# Altium schematic symbol library Semiconductor.SchLib: 13 symbols
Pins are listed as number, name and electrical type; pins without a type are passive.

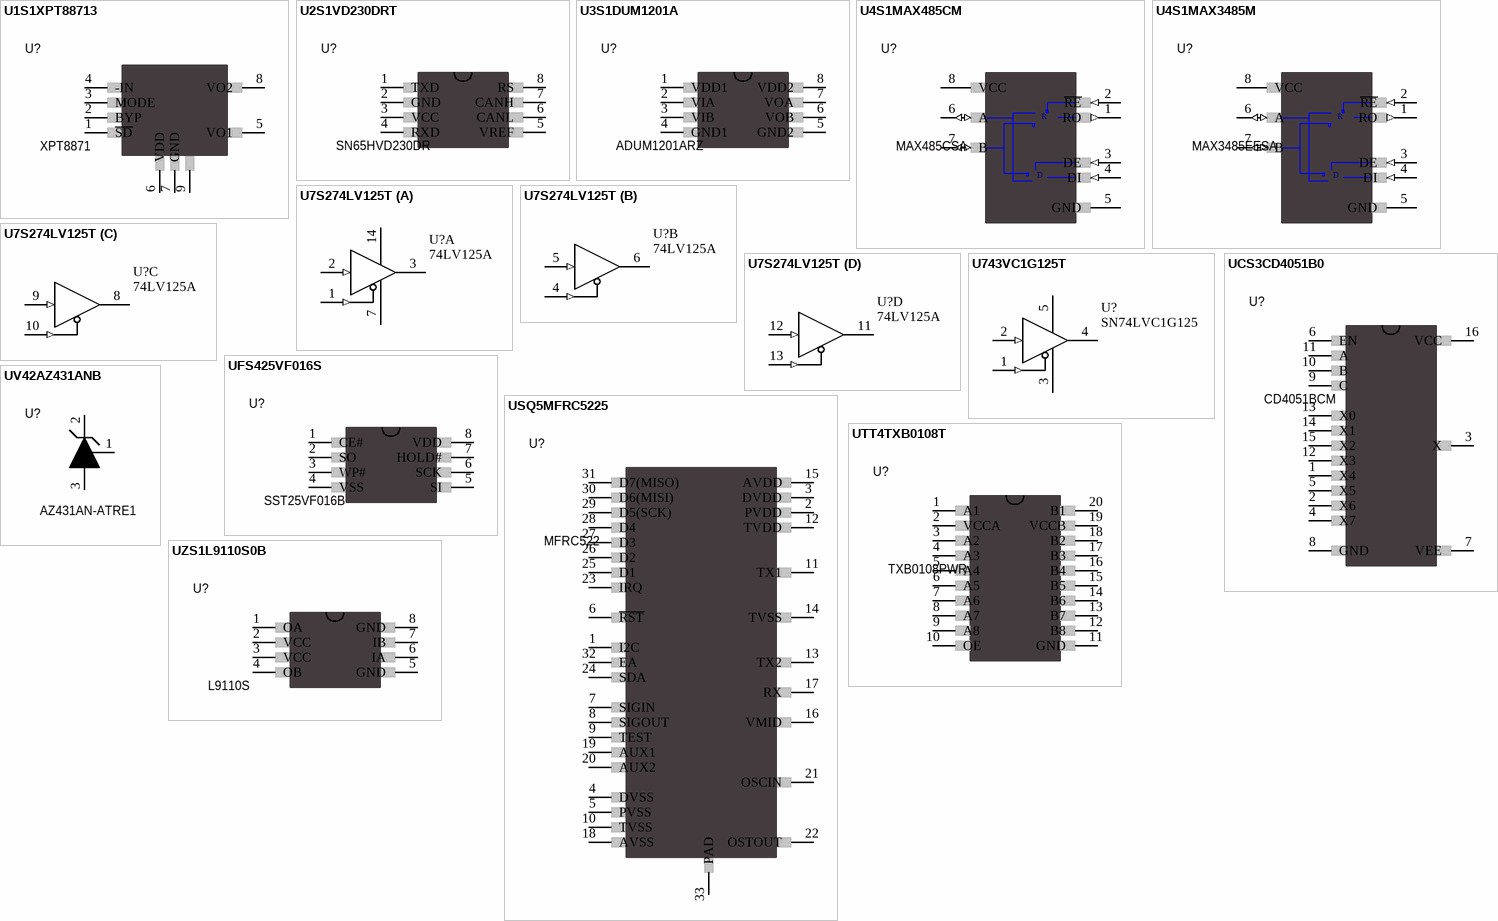
[diagram p0: symbols U1S1XPT88713 to UZS1L9110S0B]

## U1S1XPT88713
designator U?, comment XPT8871
1 channel audio amplifier XPT8871 5W; Manufacturer: XPTEK; TemperatureRange: -40 to 85°C; MountType: SMT; PackageReference: SOIC-8; Published: 1-Jun-2017; Publisher: GreenBox; VenderID: XPT8871
footprint SO-8_POWERPAD (8-Pin Small Outline Integrated Circuit 1.27 mm Pitch)
pins: 1 ~{SD}, 2 BYP, 3 MODE, 4 -IN, 5 VO1, 6 VDD, 7 GND, 8 VO2, 9
2 alternate drawings of the same symbol

## U2S1VD230DRT
designator U?, comment SN65HVD230DR
CAN Bus Transceivers SN65HVD230DR Vcc 3.3V; Manufacturer: TEXAS INSTRUMENTS; TemperatureRange: -40 to 85°C; MountType: SMT; PackageReference: SOIC-8; Published: 1-Jun-2017; Publisher: GreenBox; VenderID: SN65HVD230DR
footprint SO-8_N (8-Pin Small Outline Integrated Circuit 1.27 mm Pitch, IPC Medium Density)
footprint SO-8_L (8-Pin Small Outline Integrated Circuit 1.27 mm Pitch, IPC High Density)
footprint SO-8_M (8-Pin Small Outline Integrated Circuit 1.27 mm Pitch, IPC Low Density)
pins: 1 TXD, 2 GND, 3 VCC, 4 RXD, 5 VREF, 6 CANL, 7 CANH, 8 RS
2 alternate drawings of the same symbol

## U3S1DUM1201A
designator U?, comment ADUM1201ARZ
Digital Isolators ADUM1201ARZ; Manufacturer: ANALOG DEVICES; TemperatureRange: -40 to 105°C; MountType: SMT; PackageReference: SOIC-8; Published: 1-Jun-2017; Publisher: GreenBox; VenderID: ADUM1201ARZ
footprint SO-8_N (8-Pin Small Outline Integrated Circuit 1.27 mm Pitch, IPC Medium Density)
footprint SO-8_L (8-Pin Small Outline Integrated Circuit 1.27 mm Pitch, IPC High Density)
footprint SO-8_M (8-Pin Small Outline Integrated Circuit 1.27 mm Pitch, IPC Low Density)
pins: 1 VDD1, 2 VIA, 3 VIB, 4 GND1, 5 GND2, 6 VOB, 7 VOA, 8 VDD2
2 alternate drawings of the same symbol

## U4S1MAX485CM
designator U?, comment MAX485CSA
RS-485/RS-422 Transceivers MAX485CSA 5V; Manufacturer: MAXIM; TemperatureRange: -40 to 85°C; MountType: SMT; PackageReference: SOIC-8; Published: 1-Jun-2017; Publisher: GreenBox; VenderID: MAX485CSA
footprint SO-8_N (8-Pin Small Outline Integrated Circuit 1.27 mm Pitch, IPC Medium Density)
footprint SO-8_L (8-Pin Small Outline Integrated Circuit 1.27 mm Pitch, IPC High Density)
footprint SO-8_M (8-Pin Small Outline Integrated Circuit 1.27 mm Pitch, IPC Low Density)
pins: 1 RO (out), 2 ~{RE} (in), 3 DE (in), 4 DI (in), 5 GND, 6 A (io), 7 B (io), 8 VCC
2 alternate drawings of the same symbol
text: R; D

## U4S1MAX3485M
designator U?, comment MAX3485EESA
RS-485/RS-422 Transceivers MAX3485EESA 3.3V; Manufacturer: MAXIM; TemperatureRange: -40 to 85°C; MountType: SMT; PackageReference: SOIC-8; Published: 1-Jun-2017; Publisher: GreenBox; VenderID: MAX3485EESA
footprint SO-8_N (8-Pin Small Outline Integrated Circuit 1.27 mm Pitch, IPC Medium Density)
footprint SO-8_L (8-Pin Small Outline Integrated Circuit 1.27 mm Pitch, IPC High Density)
footprint SO-8_M (8-Pin Small Outline Integrated Circuit 1.27 mm Pitch, IPC Low Density)
pins: 1 RO (out), 2 ~{RE} (in), 3 DE (in), 4 DI (in), 5 GND, 6 A (io), 7 B (io), 8 VCC
2 alternate drawings of the same symbol
text: R; D

## U7S274LV125T
designator U?, comment 74LV125A
Quadruple Bus Buffer Gates 74LV125A; Manufacturer: TEXAS INSTRUMENTS; TemperatureRange: -40°C to 85°C; Publisher: GreenBox; Published: 1-Jan-2016; PackageReference: SOIC(14); MountType: SMT; VenderID: 74LV125A; PackageDescription: 14-Pin Small Outline Integrated Circuit 1.27 mm Pitch
footprint SO-14_N (14-Pin Small Outline Integrated Circuit 1.27 mm Pitch, IPC Medium Density)
footprint SO-14_L (14-Pin Small Outline Integrated Circuit 1.27 mm Pitch, IPC High Density)
footprint SO-14_M (14-Pin Small Outline Integrated Circuit 1.27 mm Pitch, IPC Low Density)
part A pins: 1 (in), 2 (in), 3, 7, 14
part B pins: 4 (in), 5 (in), 6
part C pins: 8, 9 (in), 10 (in)
part D pins: 11, 12 (in), 13 (in)

## U743VC1G125T
designator U?, comment SN74LVC1G125
Single Bus Buffer Gates SN74LVC1G125; Manufacturer: TEXAS INSTRUMENTS; TemperatureRange: -40°C to 85°C; Publisher: GreenBox; Published: 1-Jan-2016; PackageReference: SOT-23-5; MountType: SMT; VenderID: SN74LVC1G125; PackageDescription: SOT23-5, 5-Leads, Body 2.9x1.3mm, Pitch 0.95mm, Lead Span 2.5mm
footprint SOT-23-5 (SOT23-5, 5-Leads, Body 2.9x1.3mm, Pitch 0.95mm, Lead Span 2.5mm)
pins: 1 (in), 2 (in), 3, 4, 5

## UCS3CD4051B0
designator U?, comment CD4051BCM
SGL ENDED MULTIPLEXER CD4051BCM 8-CHANNEL; TemperatureRange: -55 to 125°C; Manufacturer: *; MountType: SMT; PackageReference: SOIC-16; Published: 1-Jun-2017; Publisher: GreenBox; VenderID: CD4051BCM
footprint SO-16_N (16-Pin Small Outline Integrated Circuit 1.27 mm Pitch, IPC Medium Density)
footprint SO-16_L (16-Pin Small Outline Integrated Circuit 1.27 mm Pitch, IPC High Density)
footprint SO-16_M (16-Pin Small Outline Integrated Circuit 1.27 mm Pitch, IPC Low Density)
pins: 1 X4, 2 X6, 3 X, 4 X7, 5 X5, 6 EN, 7 VEE, 8 GND, 9 C, 10 B, 11 A, 12 X3, 13 X0, 14 X1, 15 X2, 16 VCC
2 alternate drawings of the same symbol

## UFS425VF016S
designator U?, comment SST25VF016B
Serial Flash Memory SST25VF016B 16Mbit; Manufacturer: SILICON STORAGE TECHNOLOGY; TemperatureRange: -40 to 85°C; MountType: SMT; PackageReference: WSON-8; Published: 1-Jun-2017; Publisher: GreenBox; VenderID: SST25VF016B
footprint SO8W_N (8-Pin Small Outline Package 1.27 mm Pitch, IPC Medium Density)
pins: 1 CE#, 2 SO, 3 WP#, 4 VSS, 5 SI, 6 SCK, 7 HOLD#, 8 VDD
2 alternate drawings of the same symbol

## USQ5MFRC5225
designator U?, comment MFRC522
MIFARE MFRC522; Manufacturer: NXP; TemperatureRange: -25 to 85°C; MountType: SMT; PackageReference: QFN32; Published: 1-Jun-2017; Publisher: GreenBox; VenderID: MFRC522
footprint QFN32_L_1GND
pins: 1 I2C, 2 PVDD (power), 3 DVDD, 4 DVSS, 5 PVSS, 6 ~{RST}, 7 SIGIN, 8 SIGOUT, 9 TEST, 10 TVSS, 11 TX1, 12 TVDD (power), 13 TX2, 14 TVSS, 15 AVDD (power), 16 VMID, 17 RX, 18 AVSS, 19 AUX1, 20 AUX2, 21 OSCIN, 22 OSTOUT, 23 IRQ, 24 SDA, 25 D1, 26 D2, 27 D3, 28 D4, 29 D5(SCK), 30 D6(MISI), 31 D7(MISO), 32 EA, 33 PAD
2 alternate drawings of the same symbol

## UTT4TXB0108T
designator U?, comment TXB0108PWR
Voltage-Level Translator TXB0108PWR; Manufacturer: TI; TemperatureRange: -40 to 85°C; MountType: SMT; PackageReference: TSSOP-20; Published: 1-Jun-2017; Publisher: GreenBox; VenderID: TXB0108PWR
footprint TSSOP20_N (SOP, 20-Leads, Body 6.5x4.4mm, Pitch 0.65mm, IPC Medium Density)
pins: 1 A1, 2 VCCA, 3 A2, 4 A3, 5 A4, 6 A5, 7 A6, 8 A7, 9 A8, 10 OE, 11 GND, 12 B8, 13 B7, 14 B6, 15 B5, 16 B4, 17 B3, 18 B2, 19 VCCB, 20 B1
2 alternate drawings of the same symbol

## UV42AZ431ANB
designator U?, comment AZ431AN-ATRE1
Voltage Reference AZ431AN-ATRE1 Vref 2.5V; Manufacturer: BCD SEMICONDUCTOR; TemperatureRange: -40 to 125°C; MountType: SMT; PackageReference: SOT-23; Published: 1-Jun-2017; Publisher: GreenBox; VenderID: AZ431AN-ATRE1
footprint SOT-23_N (SOT23, 3-Leads, Body 2.9x1.3mm, Pitch 0.95mm, Lead Span 2.5mm, IPC Medium Density)
footprint SOT-23_L (SOT23, 3-Leads, Body 2.9x1.3mm, Pitch 0.95mm, Lead Span 2.5mm, IPC High Density)
footprint SOT-23_M (SOT23, 3-Leads, Body 2.9x1.3mm, Pitch 0.95mm, Lead Span 2.5mm, IPC Low Density)
pins: 1 OUT, 2 IN+, 3 IN-
2 alternate drawings of the same symbol

## UZS1L9110S0B
designator U?, comment L9110S
Special IC L9110S 800mA/2.5V-12V; Manufacturer: BOYE; TemperatureRange: -30 to 105°C; MountType: SMT; PackageReference: SOIC-8; Published: 1-Jun-2017; Publisher: GreenBox; VenderID: L9110S
footprint SO-8_N (8-Pin Small Outline Integrated Circuit 1.27 mm Pitch, IPC Medium Density)
footprint SO-8_L (8-Pin Small Outline Integrated Circuit 1.27 mm Pitch, IPC High Density)
footprint SO-8_M (8-Pin Small Outline Integrated Circuit 1.27 mm Pitch, IPC Low Density)
pins: 1 OA, 2 VCC, 3 VCC, 4 OB, 5 GND, 6 IA, 7 IB, 8 GND
2 alternate drawings of the same symbol